# EAGLE library part TTGO_KUSKALLA (library TTGO_KUSKALLA)
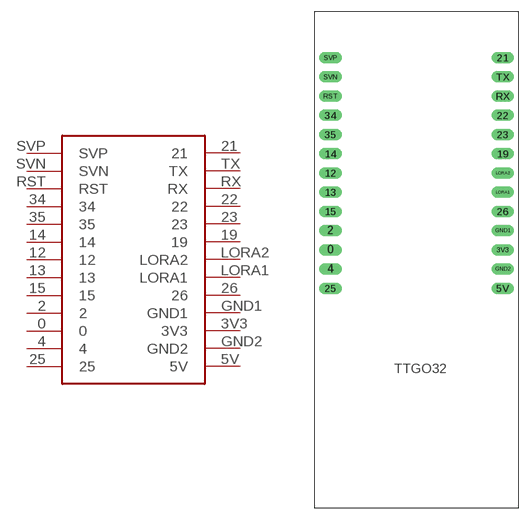
[diagram p0: symbol with the pads of TTGO_KUSKALLA; footprint TTGO_KUSKALLA]

Designator prefix -

## TTGO_KUSKALLA  [TTGO_KUSKALLA]
0  0
2  2
3V3  3V3
4  4
5V  5V
12  12
13  13
14  14
15  15
19  19
21  21
22  22
23  23
25  25
26  26
34  34
35  35
GND1  GND1
GND2  GND2
LORA1  LORA1
LORA2  LORA2
RST  RST
RX  RX
SVN  SVN
SVP  SVP
TX  TX

## Footprint TTGO_KUSKALLA (pad centres in mm)
drill 1 long: 0 -11.372,1.311; 2 -11.372,3.851; 3V3 11.372,1.311; 4 -11.372,-1.229; 5V 11.372,-3.769; 12 -11.372,11.471; 13 -11.372,8.931; 14 -11.372,14.011; 15 -11.372,6.391; 19 11.372,14.011; 21 11.372,26.711; 22 11.372,19.091; 23 11.372,16.551; 25 -11.372,-3.769; 26 11.372,6.391; 34 -11.372,19.091; 35 -11.372,16.551; GND1 11.372,3.851; GND2 11.372,-1.229; LORA1 11.372,8.931; LORA2 11.372,11.471; RST -11.372,21.631; RX 11.372,21.631; SVN -11.372,24.171; SVP -11.372,26.711; TX 11.372,24.171